# Altium footprint library Connector_JST.PcbLib: 558 footprints (part 29 of 35)
Each footprint in its own frame and in the unit in brackets; x right, y up, seen from the top. Pads: shape width x height; smd on the part's side, far side on the other; paste and mask are expansions set on the pad; w line width, h text height; cw(c..) or ccw(c..) is an arc to the next point about the centre after c.
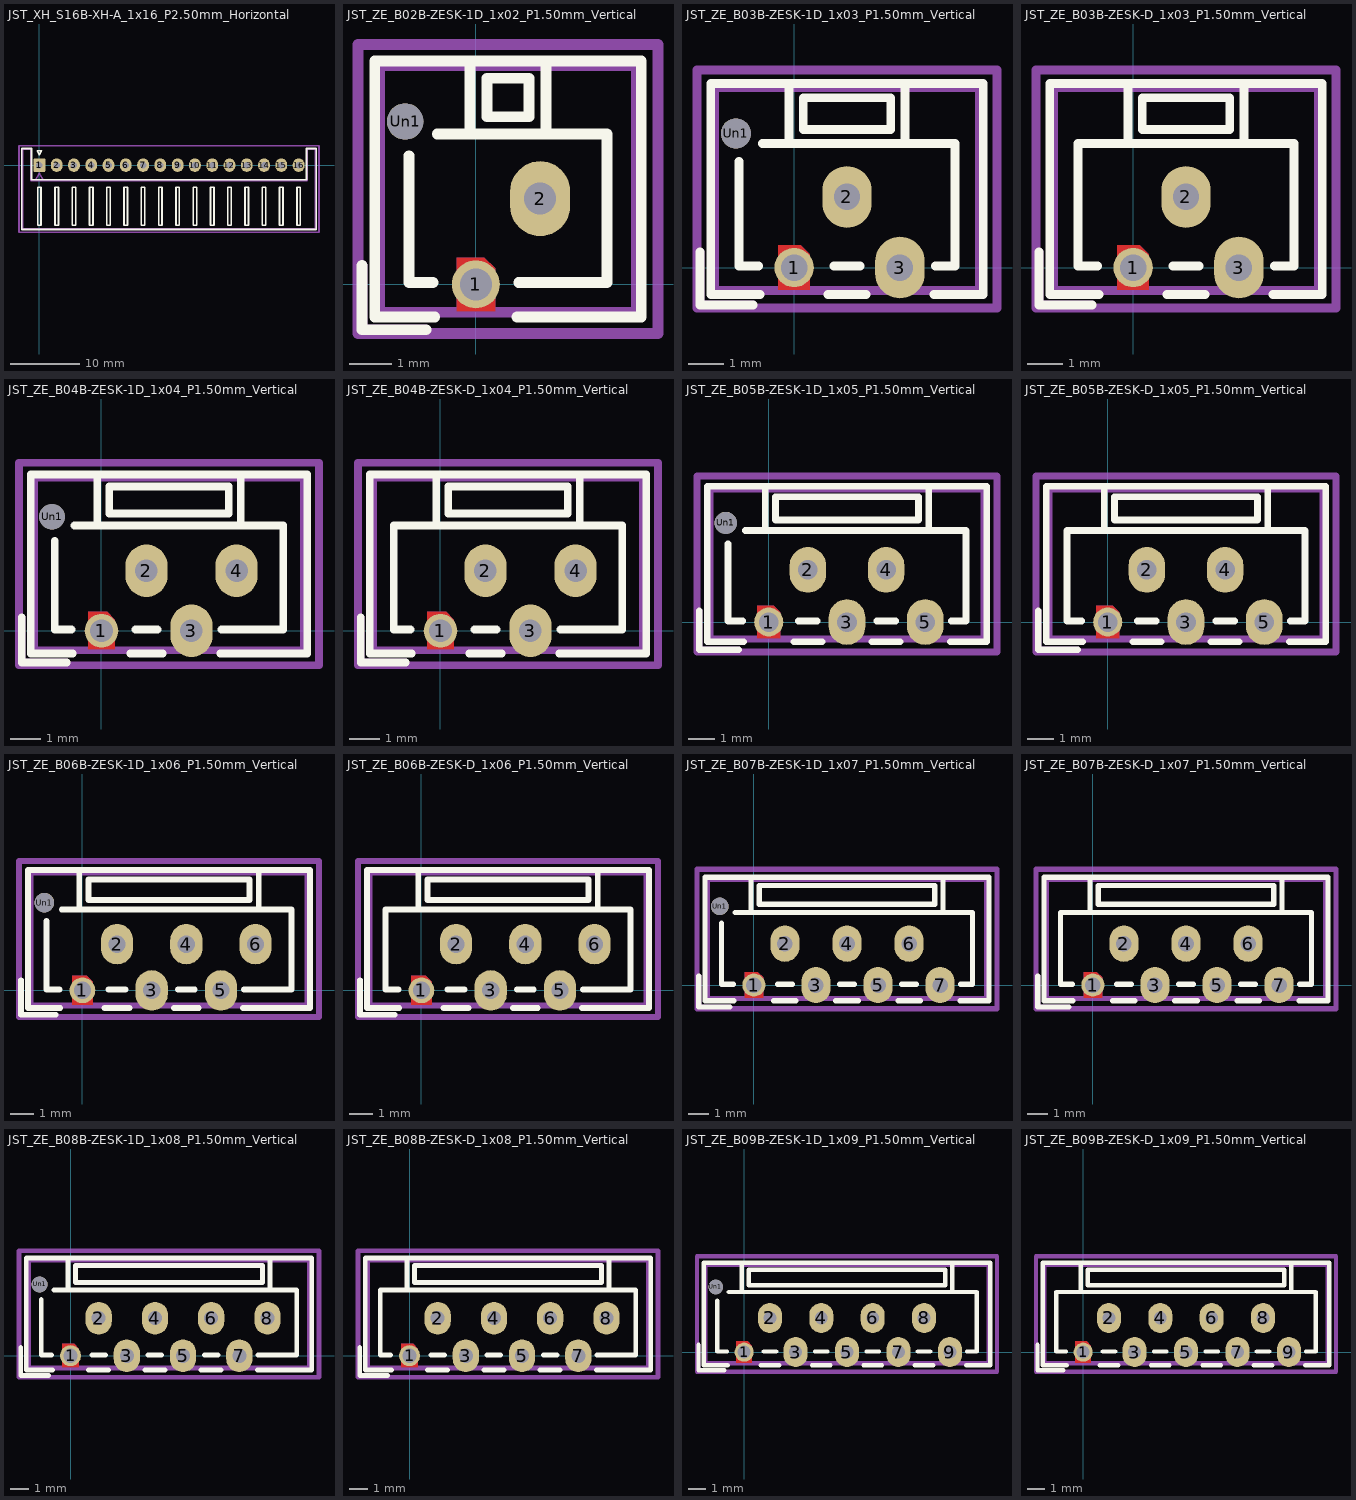
[diagram p28: the footprints below, top view; thin cyan lines are the x and y axes]

## JST_XH_S16B-XH-A_1x16_P2.50mm_Horizontal [mm] "JST_XH_S16B-XH-A_1x16_P2.50mm_Horizontal"
pads (16):
  rrect15% 1.7x1.95 hole 0.95: 1(0,0)
  rrect100% 1.7x1.95 hole 0.95: 2(2.5,0) 3(5,0) 4(7.5,0) 5(10,0) 6(12.5,0) 7(15,0) 8(17.5,0) 9(20,0) 10(22.5,0) 11(25,0) 12(27.5,0) 13(30,0) 14(32.5,0) 15(35,0) 16(37.5,0)
F.SilkS:
  lines w0.254: -2.56,-9.31 -2.56,2.41 -1.14,2.41 -1.14,-2.09 18.75,-2.09 38.64,-2.09 38.64,2.41 40.06,2.41 40.06,-9.31 18.75,-9.31 -2.56,-9.31 ; -0.3,2.1 0.3,2.1 0,1.5 -0.3,2.1 ; -0.25,-8.7 -0.25,-3.2 0.25,-3.2 0.25,-8.7 -0.25,-8.7 ; 2.25,-8.7 2.25,-3.2 2.75,-3.2 2.75,-8.7 2.25,-8.7 ; 4.75,-8.7 4.75,-3.2 5.25,-3.2 5.25,-8.7 4.75,-8.7 ; 7.25,-8.7 7.25,-3.2 7.75,-3.2 7.75,-8.7 7.25,-8.7 ; 9.75,-8.7 9.75,-3.2 10.25,-3.2 10.25,-8.7 9.75,-8.7 ; 12.25,-8.7 12.25,-3.2 12.75,-3.2 12.75,-8.7 12.25,-8.7 ; 14.75,-8.7 14.75,-3.2 15.25,-3.2 15.25,-8.7 14.75,-8.7 ; 17.25,-8.7 17.25,-3.2 17.75,-3.2 17.75,-8.7 17.25,-8.7 ; 19.75,-8.7 19.75,-3.2 20.25,-3.2 20.25,-8.7 19.75,-8.7 ; 22.25,-8.7 22.25,-3.2 22.75,-3.2 22.75,-8.7 22.25,-8.7 ; 24.75,-8.7 24.75,-3.2 25.25,-3.2 25.25,-8.7 24.75,-8.7 ; 27.25,-8.7 27.25,-3.2 27.75,-3.2 27.75,-8.7 27.25,-8.7 ; 29.75,-8.7 29.75,-3.2 30.25,-3.2 30.25,-8.7 29.75,-8.7 ; 32.25,-8.7 32.25,-3.2 32.75,-3.2 32.75,-8.7 32.25,-8.7 ; 34.75,-8.7 34.75,-3.2 35.25,-3.2 35.25,-8.7 34.75,-8.7 ; 37.25,-8.7 37.25,-3.2 37.75,-3.2 37.75,-8.7 37.25,-8.7
Top Component Center:
  lines w0.127: -0.127,0 0.127,0 ; 0,-0.127 0,0.127
Top Assembly:
  lines w0.254: -0.625,-2.2 0,-1.2 0.625,-2.2 ; -2.45,-9.2 -2.45,2.3 -1.25,2.3 -1.25,-2.2 18.75,-2.2 38.75,-2.2 38.75,2.3 39.95,2.3 39.95,-9.2 18.75,-9.2 -2.45,-9.2
Top Courtyard:
  lines w0.254: -2.95,-9.7 -2.95,2.81 40.45,2.81 40.45,-9.7 -2.95,-9.7
Top Designator:
  text ".Designator" at 15.239,1.307 h1.52
3D body "JST_XH_S16B-XH-A_1x16_P2.50mm_Horizontal.step": height 6.1, standoff -3.4, extent -2.45,-9.2 39.95,2.3

## JST_ZE_B02B-ZESK-1D_1x02_P1.50mm_Vertical [mm] "JST_ZE_B02B-ZESK-1D_1x02_P1.50mm_Vertical"
pads (3):
  round 1.117 hole 0.75: 1(0,0)
  rrect100% 1.4x1.75 hole 0.75: 2(1.5,2)
  round 0.85 hole 0.85: Un1(-1.65,3.8)
F.Cu:
  region: 0.45,0.371 0.45,-0.625 -0.45,-0.625 -0.45,0.625 0.196,0.625
B.Cu:
  region: 0.45,0.371 0.45,-0.625 -0.45,-0.625 -0.45,0.625 0.196,0.625
F.SilkS:
  lines w0.254: -2.66,0.44 -2.66,-1.06 -1.16,-1.06 ; -1.56,3 -1.56,0.04 -1,0.04 ; -0.96,-0.76 -2.36,-0.76 -2.36,5.21 3.86,5.21 3.86,-0.76 0.96,-0.76 ; -0.9,3.51 -0.14,3.51 ; 1,0.04 3.06,0.04 3.06,3.51 1.64,3.51 ; -0.14,3.51 1.64,3.51 ; -0.14,3.51 -0.14,5.21 1.64,5.21 1.64,3.51 ; 0.26,3.91 1.24,3.91 1.24,4.81 0.26,4.81 0.26,3.91
F.Mask:
  region: 0.45,0.371 0.45,-0.625 -0.45,-0.625 -0.45,0.625 0.196,0.625
B.Mask:
  region: 0.45,0.371 0.45,-0.625 -0.45,-0.625 -0.45,0.625 0.196,0.625
Top Component Center:
  lines w0.127: -0.127,0 0.127,0 ; 0,-0.127 0,0.127
Top Assembly:
  lines w0.254: -2.66,0.44 -2.66,-1.06 -1.16,-1.06 ; -2.25,-0.65 3.75,-0.65 3.75,5.1 -2.25,5.1 -2.25,-0.65
Top Courtyard:
  lines w0.254: -2.75,-1.15 4.25,-1.15 4.25,5.6 -2.75,5.6 -2.75,-1.15
Top Designator:
  text ".Designator" at -2.668,3.974 h1.52

## JST_ZE_B03B-ZESK-1D_1x03_P1.50mm_Vertical [mm] "JST_ZE_B03B-ZESK-1D_1x03_P1.50mm_Vertical"
pads (4):
  round 1.117 hole 0.75: 1(0,0)
  rrect100% 1.4x1.75 hole 0.75: 2(1.5,2) 3(3,0)
  round 0.85 hole 0.85: Un1(-1.65,3.8)
F.Cu:
  region: 0.45,0.371 0.45,-0.625 -0.45,-0.625 -0.45,0.625 0.196,0.625
B.Cu:
  region: 0.45,0.371 0.45,-0.625 -0.45,-0.625 -0.45,0.625 0.196,0.625
F.SilkS:
  lines w0.254: -2.66,0.44 -2.66,-1.06 -1.16,-1.06 ; -1.56,3 -1.56,0.04 -1,0.04 ; -0.96,-0.76 -2.36,-0.76 -2.36,5.21 5.36,5.21 5.36,-0.76 3.96,-0.76 ; -0.9,3.51 -0.14,3.51 ; 0.96,-0.76 2.04,-0.76 ; 1.135,0.04 1.865,0.04 ; 4,0.04 4.56,0.04 4.56,3.51 3.14,3.51 ; -0.14,3.51 3.14,3.51 ; -0.14,3.51 -0.14,5.21 3.14,5.21 3.14,3.51 ; 0.26,3.91 2.74,3.91 2.74,4.81 0.26,4.81 0.26,3.91
F.Mask:
  region: 0.45,0.371 0.45,-0.625 -0.45,-0.625 -0.45,0.625 0.196,0.625
B.Mask:
  region: 0.45,0.371 0.45,-0.625 -0.45,-0.625 -0.45,0.625 0.196,0.625
Top Component Center:
  lines w0.127: -0.127,0 0.127,0 ; 0,-0.127 0,0.127
Top Assembly:
  lines w0.254: -2.66,0.44 -2.66,-1.06 -1.16,-1.06 ; -2.25,-0.65 5.25,-0.65 5.25,5.1 -2.25,5.1 -2.25,-0.65
Top Courtyard:
  lines w0.254: -2.75,-1.15 5.75,-1.15 5.75,5.6 -2.75,5.6 -2.75,-1.15
Top Designator:
  text ".Designator" at -1.906,3.847 h1.52

## JST_ZE_B03B-ZESK-D_1x03_P1.50mm_Vertical [mm] "JST_ZE_B03B-ZESK-D_1x03_P1.50mm_Vertical"
pads (3):
  round 1.117 hole 0.75: 1(0,0)
  rrect100% 1.4x1.75 hole 0.75: 2(1.5,2) 3(3,0)
F.Cu:
  region: 0.45,0.371 0.45,-0.625 -0.45,-0.625 -0.45,0.625 0.196,0.625
B.Cu:
  region: 0.45,0.371 0.45,-0.625 -0.45,-0.625 -0.45,0.625 0.196,0.625
F.SilkS:
  lines w0.254: -2.66,0.44 -2.66,-1.06 -1.16,-1.06 ; -1,0.04 -1.56,0.04 -1.56,3.51 -0.14,3.51 ; -0.96,-0.76 -2.36,-0.76 -2.36,5.21 5.36,5.21 5.36,-0.76 3.96,-0.76 ; 0.96,-0.76 2.04,-0.76 ; 1.135,0.04 1.865,0.04 ; 4,0.04 4.56,0.04 4.56,3.51 3.14,3.51 ; -0.14,3.51 3.14,3.51 ; -0.14,3.51 -0.14,5.21 3.14,5.21 3.14,3.51 ; 0.26,3.91 2.74,3.91 2.74,4.81 0.26,4.81 0.26,3.91
F.Mask:
  region: 0.45,0.371 0.45,-0.625 -0.45,-0.625 -0.45,0.625 0.196,0.625
B.Mask:
  region: 0.45,0.371 0.45,-0.625 -0.45,-0.625 -0.45,0.625 0.196,0.625
Top Component Center:
  lines w0.127: -0.127,0 0.127,0 ; 0,-0.127 0,0.127
Top Assembly:
  lines w0.254: -2.66,0.44 -2.66,-1.06 -1.16,-1.06 ; -2.25,-0.65 5.25,-0.65 5.25,5.1 -2.25,5.1 -2.25,-0.65
Top Courtyard:
  lines w0.254: -2.75,-1.15 5.75,-1.15 5.75,5.6 -2.75,5.6 -2.75,-1.15
Top Designator:
  text ".Designator" at -1.906,3.974 h1.52

## JST_ZE_B04B-ZESK-1D_1x04_P1.50mm_Vertical [mm] "JST_ZE_B04B-ZESK-1D_1x04_P1.50mm_Vertical"
pads (5):
  round 1.117 hole 0.75: 1(0,0)
  rrect100% 1.4x1.75 hole 0.75: 2(1.5,2) 3(3,0) 4(4.5,2)
  round 0.85 hole 0.85: Un1(-1.65,3.8)
F.Cu:
  region: 0.45,0.371 0.45,-0.625 -0.45,-0.625 -0.45,0.625 0.196,0.625
B.Cu:
  region: 0.45,0.371 0.45,-0.625 -0.45,-0.625 -0.45,0.625 0.196,0.625
F.SilkS:
  lines w0.254: -2.66,0.44 -2.66,-1.06 -1.16,-1.06 ; -1.56,3 -1.56,0.04 -1,0.04 ; -0.96,-0.76 -2.36,-0.76 -2.36,5.21 6.86,5.21 6.86,-0.76 3.96,-0.76 ; -0.9,3.51 -0.14,3.51 ; 0.96,-0.76 2.04,-0.76 ; 1.135,0.04 1.865,0.04 ; 4,0.04 6.06,0.04 6.06,3.51 4.64,3.51 ; -0.14,3.51 4.64,3.51 ; -0.14,3.51 -0.14,5.21 4.64,5.21 4.64,3.51 ; 0.26,3.91 4.24,3.91 4.24,4.81 0.26,4.81 0.26,3.91
F.Mask:
  region: 0.45,0.371 0.45,-0.625 -0.45,-0.625 -0.45,0.625 0.196,0.625
B.Mask:
  region: 0.45,0.371 0.45,-0.625 -0.45,-0.625 -0.45,0.625 0.196,0.625
Top Component Center:
  lines w0.127: -0.127,0 0.127,0 ; 0,-0.127 0,0.127
Top Assembly:
  lines w0.254: -2.66,0.44 -2.66,-1.06 -1.16,-1.06 ; -2.25,-0.65 6.75,-0.65 6.75,5.1 -2.25,5.1 -2.25,-0.65
Top Courtyard:
  lines w0.254: -2.75,-1.15 7.25,-1.15 7.25,5.6 -2.75,5.6 -2.75,-1.15
Top Designator:
  text ".Designator" at -1.144,3.974 h1.52

## JST_ZE_B04B-ZESK-D_1x04_P1.50mm_Vertical [mm] "JST_ZE_B04B-ZESK-D_1x04_P1.50mm_Vertical"
pads (4):
  round 1.117 hole 0.75: 1(0,0)
  rrect100% 1.4x1.75 hole 0.75: 2(1.5,2) 3(3,0) 4(4.5,2)
F.Cu:
  region: 0.45,0.371 0.45,-0.625 -0.45,-0.625 -0.45,0.625 0.196,0.625
B.Cu:
  region: 0.45,0.371 0.45,-0.625 -0.45,-0.625 -0.45,0.625 0.196,0.625
F.SilkS:
  lines w0.254: -2.66,0.44 -2.66,-1.06 -1.16,-1.06 ; -1,0.04 -1.56,0.04 -1.56,3.51 -0.14,3.51 ; -0.96,-0.76 -2.36,-0.76 -2.36,5.21 6.86,5.21 6.86,-0.76 3.96,-0.76 ; 0.96,-0.76 2.04,-0.76 ; 1.135,0.04 1.865,0.04 ; 4,0.04 6.06,0.04 6.06,3.51 4.64,3.51 ; -0.14,3.51 4.64,3.51 ; -0.14,3.51 -0.14,5.21 4.64,5.21 4.64,3.51 ; 0.26,3.91 4.24,3.91 4.24,4.81 0.26,4.81 0.26,3.91
F.Mask:
  region: 0.45,0.371 0.45,-0.625 -0.45,-0.625 -0.45,0.625 0.196,0.625
B.Mask:
  region: 0.45,0.371 0.45,-0.625 -0.45,-0.625 -0.45,0.625 0.196,0.625
Top Component Center:
  lines w0.127: -0.127,0 0.127,0 ; 0,-0.127 0,0.127
Top Assembly:
  lines w0.254: -2.66,0.44 -2.66,-1.06 -1.16,-1.06 ; -2.25,-0.65 6.75,-0.65 6.75,5.1 -2.25,5.1 -2.25,-0.65
Top Courtyard:
  lines w0.254: -2.75,-1.15 7.25,-1.15 7.25,5.6 -2.75,5.6 -2.75,-1.15
Top Designator:
  text ".Designator" at -1.144,3.974 h1.52

## JST_ZE_B05B-ZESK-1D_1x05_P1.50mm_Vertical [mm] "JST_ZE_B05B-ZESK-1D_1x05_P1.50mm_Vertical"
pads (6):
  round 1.117 hole 0.75: 1(0,0)
  rrect100% 1.4x1.75 hole 0.75: 2(1.5,2) 3(3,0) 4(4.5,2) 5(6,0)
  round 0.85 hole 0.85: Un1(-1.65,3.8)
F.Cu:
  region: 0.45,0.371 0.45,-0.625 -0.45,-0.625 -0.45,0.625 0.196,0.625
B.Cu:
  region: 0.45,0.371 0.45,-0.625 -0.45,-0.625 -0.45,0.625 0.196,0.625
F.SilkS:
  lines w0.254: -2.66,0.44 -2.66,-1.06 -1.16,-1.06 ; -1.56,3 -1.56,0.04 -1,0.04 ; -0.96,-0.76 -2.36,-0.76 -2.36,5.21 8.36,5.21 8.36,-0.76 6.96,-0.76 ; -0.9,3.51 -0.14,3.51 ; 0.96,-0.76 2.04,-0.76 ; 1.135,0.04 1.865,0.04 ; 3.96,-0.76 5.04,-0.76 ; 4.135,0.04 4.865,0.04 ; 7,0.04 7.56,0.04 7.56,3.51 6.14,3.51 ; -0.14,3.51 6.14,3.51 ; -0.14,3.51 -0.14,5.21 6.14,5.21 6.14,3.51 ; 0.26,3.91 5.74,3.91 5.74,4.81 0.26,4.81 0.26,3.91
F.Mask:
  region: 0.45,0.371 0.45,-0.625 -0.45,-0.625 -0.45,0.625 0.196,0.625
B.Mask:
  region: 0.45,0.371 0.45,-0.625 -0.45,-0.625 -0.45,0.625 0.196,0.625
Top Component Center:
  lines w0.127: -0.127,0 0.127,0 ; 0,-0.127 0,0.127
Top Assembly:
  lines w0.254: -2.66,0.44 -2.66,-1.06 -1.16,-1.06 ; -2.25,-0.65 8.25,-0.65 8.25,5.1 -2.25,5.1 -2.25,-0.65
Top Courtyard:
  lines w0.254: -2.75,-1.15 8.75,-1.15 8.75,5.6 -2.75,5.6 -2.75,-1.15
Top Designator:
  text ".Designator" at -0.509,3.847 h1.52

## JST_ZE_B05B-ZESK-D_1x05_P1.50mm_Vertical [mm] "JST_ZE_B05B-ZESK-D_1x05_P1.50mm_Vertical"
pads (5):
  round 1.117 hole 0.75: 1(0,0)
  rrect100% 1.4x1.75 hole 0.75: 2(1.5,2) 3(3,0) 4(4.5,2) 5(6,0)
F.Cu:
  region: 0.45,0.371 0.45,-0.625 -0.45,-0.625 -0.45,0.625 0.196,0.625
B.Cu:
  region: 0.45,0.371 0.45,-0.625 -0.45,-0.625 -0.45,0.625 0.196,0.625
F.SilkS:
  lines w0.254: -2.66,0.44 -2.66,-1.06 -1.16,-1.06 ; -1,0.04 -1.56,0.04 -1.56,3.51 -0.14,3.51 ; -0.96,-0.76 -2.36,-0.76 -2.36,5.21 8.36,5.21 8.36,-0.76 6.96,-0.76 ; 0.96,-0.76 2.04,-0.76 ; 1.135,0.04 1.865,0.04 ; 3.96,-0.76 5.04,-0.76 ; 4.135,0.04 4.865,0.04 ; 7,0.04 7.56,0.04 7.56,3.51 6.14,3.51 ; -0.14,3.51 6.14,3.51 ; -0.14,3.51 -0.14,5.21 6.14,5.21 6.14,3.51 ; 0.26,3.91 5.74,3.91 5.74,4.81 0.26,4.81 0.26,3.91
F.Mask:
  region: 0.45,0.371 0.45,-0.625 -0.45,-0.625 -0.45,0.625 0.196,0.625
B.Mask:
  region: 0.45,0.371 0.45,-0.625 -0.45,-0.625 -0.45,0.625 0.196,0.625
Top Component Center:
  lines w0.127: -0.127,0 0.127,0 ; 0,-0.127 0,0.127
Top Assembly:
  lines w0.254: -2.66,0.44 -2.66,-1.06 -1.16,-1.06 ; -2.25,-0.65 8.25,-0.65 8.25,5.1 -2.25,5.1 -2.25,-0.65
Top Courtyard:
  lines w0.254: -2.75,-1.15 8.75,-1.15 8.75,5.6 -2.75,5.6 -2.75,-1.15
Top Designator:
  text ".Designator" at -0.382,3.974 h1.52

## JST_ZE_B06B-ZESK-1D_1x06_P1.50mm_Vertical [mm] "JST_ZE_B06B-ZESK-1D_1x06_P1.50mm_Vertical"
pads (7):
  round 1.117 hole 0.75: 1(0,0)
  rrect100% 1.4x1.75 hole 0.75: 2(1.5,2) 3(3,0) 4(4.5,2) 5(6,0) 6(7.5,2)
  round 0.85 hole 0.85: Un1(-1.65,3.8)
F.Cu:
  region: 0.45,0.371 0.45,-0.625 -0.45,-0.625 -0.45,0.625 0.196,0.625
B.Cu:
  region: 0.45,0.371 0.45,-0.625 -0.45,-0.625 -0.45,0.625 0.196,0.625
F.SilkS:
  lines w0.254: -2.66,0.44 -2.66,-1.06 -1.16,-1.06 ; -1.56,3 -1.56,0.04 -1,0.04 ; -0.96,-0.76 -2.36,-0.76 -2.36,5.21 9.86,5.21 9.86,-0.76 6.96,-0.76 ; -0.9,3.51 -0.14,3.51 ; 0.96,-0.76 2.04,-0.76 ; 1.135,0.04 1.865,0.04 ; 3.96,-0.76 5.04,-0.76 ; 4.135,0.04 4.865,0.04 ; 7,0.04 9.06,0.04 9.06,3.51 7.64,3.51 ; -0.14,3.51 -0.14,5.21 7.64,5.21 7.64,3.51 ; -0.14,3.51 7.64,3.51 ; 0.26,3.91 0.26,4.81 7.24,4.81 7.24,3.91 0.26,3.91
F.Mask:
  region: 0.45,0.371 0.45,-0.625 -0.45,-0.625 -0.45,0.625 0.196,0.625
B.Mask:
  region: 0.45,0.371 0.45,-0.625 -0.45,-0.625 -0.45,0.625 0.196,0.625
Top Component Center:
  lines w0.127: -0.127,0 0.127,0 ; 0,-0.127 0,0.127
Top Assembly:
  lines w0.254: -2.66,0.44 -2.66,-1.06 -1.16,-1.06 ; -2.25,-0.65 -2.25,5.1 9.75,5.1 9.75,-0.65 -2.25,-0.65
Top Courtyard:
  lines w0.254: -2.75,-1.15 -2.75,5.6 10.25,5.6 10.25,-1.15 -2.75,-1.15
Top Designator:
  text ".Designator" at 0.253,3.974 h1.52

## JST_ZE_B06B-ZESK-D_1x06_P1.50mm_Vertical [mm] "JST_ZE_B06B-ZESK-D_1x06_P1.50mm_Vertical"
pads (6):
  round 1.117 hole 0.75: 1(0,0)
  rrect100% 1.4x1.75 hole 0.75: 2(1.5,2) 3(3,0) 4(4.5,2) 5(6,0) 6(7.5,2)
F.Cu:
  region: 0.45,0.371 0.45,-0.625 -0.45,-0.625 -0.45,0.625 0.196,0.625
B.Cu:
  region: 0.45,0.371 0.45,-0.625 -0.45,-0.625 -0.45,0.625 0.196,0.625
F.SilkS:
  lines w0.254: -2.66,0.44 -2.66,-1.06 -1.16,-1.06 ; -1,0.04 -1.56,0.04 -1.56,3.51 -0.14,3.51 ; -0.96,-0.76 -2.36,-0.76 -2.36,5.21 9.86,5.21 9.86,-0.76 6.96,-0.76 ; 0.96,-0.76 2.04,-0.76 ; 1.135,0.04 1.865,0.04 ; 3.96,-0.76 5.04,-0.76 ; 4.135,0.04 4.865,0.04 ; 7,0.04 9.06,0.04 9.06,3.51 7.64,3.51 ; -0.14,3.51 -0.14,5.21 7.64,5.21 7.64,3.51 ; -0.14,3.51 7.64,3.51 ; 0.26,3.91 0.26,4.81 7.24,4.81 7.24,3.91 0.26,3.91
F.Mask:
  region: 0.45,0.371 0.45,-0.625 -0.45,-0.625 -0.45,0.625 0.196,0.625
B.Mask:
  region: 0.45,0.371 0.45,-0.625 -0.45,-0.625 -0.45,0.625 0.196,0.625
Top Component Center:
  lines w0.127: -0.127,0 0.127,0 ; 0,-0.127 0,0.127
Top Assembly:
  lines w0.254: -2.66,0.44 -2.66,-1.06 -1.16,-1.06 ; -2.25,-0.65 -2.25,5.1 9.75,5.1 9.75,-0.65 -2.25,-0.65
Top Courtyard:
  lines w0.254: -2.75,-1.15 -2.75,5.6 10.25,5.6 10.25,-1.15 -2.75,-1.15
Top Designator:
  text ".Designator" at 0.126,3.974 h1.52

## JST_ZE_B07B-ZESK-1D_1x07_P1.50mm_Vertical [mm] "JST_ZE_B07B-ZESK-1D_1x07_P1.50mm_Vertical"
pads (8):
  round 1.117 hole 0.75: 1(0,0)
  rrect100% 1.4x1.75 hole 0.75: 2(1.5,2) 3(3,0) 4(4.5,2) 5(6,0) 6(7.5,2) 7(9,0)
  round 0.85 hole 0.85: Un1(-1.65,3.8)
F.Cu:
  region: 0.45,0.371 0.45,-0.625 -0.45,-0.625 -0.45,0.625 0.196,0.625
B.Cu:
  region: 0.45,0.371 0.45,-0.625 -0.45,-0.625 -0.45,0.625 0.196,0.625
F.SilkS:
  lines w0.254: -2.66,0.44 -2.66,-1.06 -1.16,-1.06 ; -1.56,3 -1.56,0.04 -1,0.04 ; -0.96,-0.76 -2.36,-0.76 -2.36,5.21 11.36,5.21 11.36,-0.76 9.96,-0.76 ; -0.9,3.51 -0.14,3.51 ; 0.96,-0.76 2.04,-0.76 ; 1.135,0.04 1.865,0.04 ; 3.96,-0.76 5.04,-0.76 ; 4.135,0.04 4.865,0.04 ; 6.96,-0.76 8.04,-0.76 ; 7.135,0.04 7.865,0.04 ; 10,0.04 10.56,0.04 10.56,3.51 9.14,3.51 ; -0.14,3.51 9.14,3.51 ; -0.14,3.51 -0.14,5.21 9.14,5.21 9.14,3.51 ; 0.26,3.91 8.74,3.91 8.74,4.81 0.26,4.81 0.26,3.91
F.Mask:
  region: 0.45,0.371 0.45,-0.625 -0.45,-0.625 -0.45,0.625 0.196,0.625
B.Mask:
  region: 0.45,0.371 0.45,-0.625 -0.45,-0.625 -0.45,0.625 0.196,0.625
Top Component Center:
  lines w0.127: -0.127,0 0.127,0 ; 0,-0.127 0,0.127
Top Assembly:
  lines w0.254: -2.66,0.44 -2.66,-1.06 -1.16,-1.06 ; -2.25,-0.65 11.25,-0.65 11.25,5.1 -2.25,5.1 -2.25,-0.65
Top Courtyard:
  lines w0.254: -2.75,-1.15 11.75,-1.15 11.75,5.6 -2.75,5.6 -2.75,-1.15
Top Designator:
  text ".Designator" at 1.142,3.974 h1.52

## JST_ZE_B07B-ZESK-D_1x07_P1.50mm_Vertical [mm] "JST_ZE_B07B-ZESK-D_1x07_P1.50mm_Vertical"
pads (7):
  round 1.117 hole 0.75: 1(0,0)
  rrect100% 1.4x1.75 hole 0.75: 2(1.5,2) 3(3,0) 4(4.5,2) 5(6,0) 6(7.5,2) 7(9,0)
F.Cu:
  region: 0.45,0.371 0.45,-0.625 -0.45,-0.625 -0.45,0.625 0.196,0.625
B.Cu:
  region: 0.45,0.371 0.45,-0.625 -0.45,-0.625 -0.45,0.625 0.196,0.625
F.SilkS:
  lines w0.254: -2.66,0.44 -2.66,-1.06 -1.16,-1.06 ; -1,0.04 -1.56,0.04 -1.56,3.51 -0.14,3.51 ; -0.96,-0.76 -2.36,-0.76 -2.36,5.21 11.36,5.21 11.36,-0.76 9.96,-0.76 ; 0.96,-0.76 2.04,-0.76 ; 1.135,0.04 1.865,0.04 ; 3.96,-0.76 5.04,-0.76 ; 4.135,0.04 4.865,0.04 ; 6.96,-0.76 8.04,-0.76 ; 7.135,0.04 7.865,0.04 ; 10,0.04 10.56,0.04 10.56,3.51 9.14,3.51 ; -0.14,3.51 -0.14,5.21 9.14,5.21 9.14,3.51 ; -0.14,3.51 9.14,3.51 ; 0.26,3.91 0.26,4.81 8.74,4.81 8.74,3.91 0.26,3.91
F.Mask:
  region: 0.45,0.371 0.45,-0.625 -0.45,-0.625 -0.45,0.625 0.196,0.625
B.Mask:
  region: 0.45,0.371 0.45,-0.625 -0.45,-0.625 -0.45,0.625 0.196,0.625
Top Component Center:
  lines w0.127: -0.127,0 0.127,0 ; 0,-0.127 0,0.127
Top Assembly:
  lines w0.254: -2.66,0.44 -2.66,-1.06 -1.16,-1.06 ; -2.25,-0.65 -2.25,5.1 11.25,5.1 11.25,-0.65 -2.25,-0.65
Top Courtyard:
  lines w0.254: -2.75,-1.15 -2.75,5.6 11.75,5.6 11.75,-1.15 -2.75,-1.15
Top Designator:
  text ".Designator" at 0.761,3.847 h1.52

## JST_ZE_B08B-ZESK-1D_1x08_P1.50mm_Vertical [mm] "JST_ZE_B08B-ZESK-1D_1x08_P1.50mm_Vertical"
pads (9):
  round 1.117 hole 0.75: 1(0,0)
  rrect100% 1.4x1.75 hole 0.75: 2(1.5,2) 3(3,0) 4(4.5,2) 5(6,0) 6(7.5,2) 7(9,0) 8(10.5,2)
  round 0.85 hole 0.85: Un1(-1.65,3.8)
F.Cu:
  region: 0.45,0.371 0.45,-0.625 -0.45,-0.625 -0.45,0.625 0.196,0.625
B.Cu:
  region: 0.45,0.371 0.45,-0.625 -0.45,-0.625 -0.45,0.625 0.196,0.625
F.SilkS:
  lines w0.254: -2.66,0.44 -2.66,-1.06 -1.16,-1.06 ; -1.56,3 -1.56,0.04 -1,0.04 ; -0.96,-0.76 -2.36,-0.76 -2.36,5.21 12.86,5.21 12.86,-0.76 9.96,-0.76 ; -0.9,3.51 -0.14,3.51 ; 0.96,-0.76 2.04,-0.76 ; 1.135,0.04 1.865,0.04 ; 3.96,-0.76 5.04,-0.76 ; 4.135,0.04 4.865,0.04 ; 6.96,-0.76 8.04,-0.76 ; 7.135,0.04 7.865,0.04 ; 10,0.04 12.06,0.04 12.06,3.51 10.64,3.51 ; -0.14,3.51 10.64,3.51 ; -0.14,3.51 -0.14,5.21 10.64,5.21 10.64,3.51 ; 0.26,3.91 10.24,3.91 10.24,4.81 0.26,4.81 0.26,3.91
F.Mask:
  region: 0.45,0.371 0.45,-0.625 -0.45,-0.625 -0.45,0.625 0.196,0.625
B.Mask:
  region: 0.45,0.371 0.45,-0.625 -0.45,-0.625 -0.45,0.625 0.196,0.625
Top Component Center:
  lines w0.127: -0.127,0 0.127,0 ; 0,-0.127 0,0.127
Top Assembly:
  lines w0.254: -2.66,0.44 -2.66,-1.06 -1.16,-1.06 ; -2.25,-0.65 12.75,-0.65 12.75,5.1 -2.25,5.1 -2.25,-0.65
Top Courtyard:
  lines w0.254: -2.75,-1.15 13.25,-1.15 13.25,5.6 -2.75,5.6 -2.75,-1.15
Top Designator:
  text ".Designator" at 1.65,3.974 h1.52

## JST_ZE_B08B-ZESK-D_1x08_P1.50mm_Vertical [mm] "JST_ZE_B08B-ZESK-D_1x08_P1.50mm_Vertical"
pads (8):
  round 1.117 hole 0.75: 1(0,0)
  rrect100% 1.4x1.75 hole 0.75: 2(1.5,2) 3(3,0) 4(4.5,2) 5(6,0) 6(7.5,2) 7(9,0) 8(10.5,2)
F.Cu:
  region: 0.45,0.371 0.45,-0.625 -0.45,-0.625 -0.45,0.625 0.196,0.625
B.Cu:
  region: 0.45,0.371 0.45,-0.625 -0.45,-0.625 -0.45,0.625 0.196,0.625
F.SilkS:
  lines w0.254: -2.66,0.44 -2.66,-1.06 -1.16,-1.06 ; -1,0.04 -1.56,0.04 -1.56,3.51 -0.14,3.51 ; -0.96,-0.76 -2.36,-0.76 -2.36,5.21 12.86,5.21 12.86,-0.76 9.96,-0.76 ; 0.96,-0.76 2.04,-0.76 ; 1.135,0.04 1.865,0.04 ; 3.96,-0.76 5.04,-0.76 ; 4.135,0.04 4.865,0.04 ; 6.96,-0.76 8.04,-0.76 ; 7.135,0.04 7.865,0.04 ; 10,0.04 12.06,0.04 12.06,3.51 10.64,3.51 ; -0.14,3.51 10.64,3.51 ; -0.14,3.51 -0.14,5.21 10.64,5.21 10.64,3.51 ; 0.26,3.91 10.24,3.91 10.24,4.81 0.26,4.81 0.26,3.91
F.Mask:
  region: 0.45,0.371 0.45,-0.625 -0.45,-0.625 -0.45,0.625 0.196,0.625
B.Mask:
  region: 0.45,0.371 0.45,-0.625 -0.45,-0.625 -0.45,0.625 0.196,0.625
Top Component Center:
  lines w0.127: -0.127,0 0.127,0 ; 0,-0.127 0,0.127
Top Assembly:
  lines w0.254: -2.66,0.44 -2.66,-1.06 -1.16,-1.06 ; -2.25,-0.65 12.75,-0.65 12.75,5.1 -2.25,5.1 -2.25,-0.65
Top Courtyard:
  lines w0.254: -2.75,-1.15 13.25,-1.15 13.25,5.6 -2.75,5.6 -2.75,-1.15
Top Designator:
  text ".Designator" at 2.031,3.974 h1.52

## JST_ZE_B09B-ZESK-1D_1x09_P1.50mm_Vertical [mm] "JST_ZE_B09B-ZESK-1D_1x09_P1.50mm_Vertical"
pads (10):
  round 1.117 hole 0.75: 1(0,0)
  rrect100% 1.4x1.75 hole 0.75: 2(1.5,2) 3(3,0) 4(4.5,2) 5(6,0) 6(7.5,2) 7(9,0) 8(10.5,2) 9(12,0)
  round 0.85 hole 0.85: Un1(-1.65,3.8)
F.Cu:
  region: 0.45,0.371 0.45,-0.625 -0.45,-0.625 -0.45,0.625 0.196,0.625
B.Cu:
  region: 0.45,0.371 0.45,-0.625 -0.45,-0.625 -0.45,0.625 0.196,0.625
F.SilkS:
  lines w0.254: -2.66,0.44 -2.66,-1.06 -1.16,-1.06 ; -1.56,3 -1.56,0.04 -1,0.04 ; -0.96,-0.76 -2.36,-0.76 -2.36,5.21 14.36,5.21 14.36,-0.76 12.96,-0.76 ; -0.9,3.51 -0.14,3.51 ; 0.96,-0.76 2.04,-0.76 ; 1.135,0.04 1.865,0.04 ; 3.96,-0.76 5.04,-0.76 ; 4.135,0.04 4.865,0.04 ; 6.96,-0.76 8.04,-0.76 ; 7.135,0.04 7.865,0.04 ; 9.96,-0.76 11.04,-0.76 ; 10.135,0.04 10.865,0.04 ; 13,0.04 13.56,0.04 13.56,3.51 12.14,3.51 ; -0.14,3.51 -0.14,5.21 12.14,5.21 12.14,3.51 ; -0.14,3.51 12.14,3.51 ; 0.26,3.91 0.26,4.81 11.74,4.81 11.74,3.91 0.26,3.91
F.Mask:
  region: 0.45,0.371 0.45,-0.625 -0.45,-0.625 -0.45,0.625 0.196,0.625
B.Mask:
  region: 0.45,0.371 0.45,-0.625 -0.45,-0.625 -0.45,0.625 0.196,0.625
Top Component Center:
  lines w0.127: -0.127,0 0.127,0 ; 0,-0.127 0,0.127
Top Assembly:
  lines w0.254: -2.66,0.44 -2.66,-1.06 -1.16,-1.06 ; -2.25,-0.65 -2.25,5.1 14.25,5.1 14.25,-0.65 -2.25,-0.65
Top Courtyard:
  lines w0.254: -2.75,-1.15 -2.75,5.6 14.75,5.6 14.75,-1.15 -2.75,-1.15
Top Designator:
  text ".Designator" at 2.412,3.974 h1.52

## JST_ZE_B09B-ZESK-D_1x09_P1.50mm_Vertical [mm] "JST_ZE_B09B-ZESK-D_1x09_P1.50mm_Vertical"
pads (9):
  round 1.117 hole 0.75: 1(0,0)
  rrect100% 1.4x1.75 hole 0.75: 2(1.5,2) 3(3,0) 4(4.5,2) 5(6,0) 6(7.5,2) 7(9,0) 8(10.5,2) 9(12,0)
F.Cu:
  region: 0.45,0.371 0.45,-0.625 -0.45,-0.625 -0.45,0.625 0.196,0.625
B.Cu:
  region: 0.45,0.371 0.45,-0.625 -0.45,-0.625 -0.45,0.625 0.196,0.625
F.SilkS:
  lines w0.254: -2.66,0.44 -2.66,-1.06 -1.16,-1.06 ; -1,0.04 -1.56,0.04 -1.56,3.51 -0.14,3.51 ; -0.96,-0.76 -2.36,-0.76 -2.36,5.21 14.36,5.21 14.36,-0.76 12.96,-0.76 ; 0.96,-0.76 2.04,-0.76 ; 1.135,0.04 1.865,0.04 ; 3.96,-0.76 5.04,-0.76 ; 4.135,0.04 4.865,0.04 ; 6.96,-0.76 8.04,-0.76 ; 7.135,0.04 7.865,0.04 ; 9.96,-0.76 11.04,-0.76 ; 10.135,0.04 10.865,0.04 ; 13,0.04 13.56,0.04 13.56,3.51 12.14,3.51 ; -0.14,3.51 12.14,3.51 ; -0.14,3.51 -0.14,5.21 12.14,5.21 12.14,3.51 ; 0.26,3.91 11.74,3.91 11.74,4.81 0.26,4.81 0.26,3.91
F.Mask:
  region: 0.45,0.371 0.45,-0.625 -0.45,-0.625 -0.45,0.625 0.196,0.625
B.Mask:
  region: 0.45,0.371 0.45,-0.625 -0.45,-0.625 -0.45,0.625 0.196,0.625
Top Component Center:
  lines w0.127: -0.127,0 0.127,0 ; 0,-0.127 0,0.127
Top Assembly:
  lines w0.254: -2.66,0.44 -2.66,-1.06 -1.16,-1.06 ; -2.25,-0.65 14.25,-0.65 14.25,5.1 -2.25,5.1 -2.25,-0.65
Top Courtyard:
  lines w0.254: -2.75,-1.15 14.75,-1.15 14.75,5.6 -2.75,5.6 -2.75,-1.15
Top Designator:
  text ".Designator" at 2.539,3.974 h1.52